# Altium integrated library Linear Technology PMIC-Switching Reg LTC1174-LTC3901.IntLib: 2647 symbols (part 64 of 310)
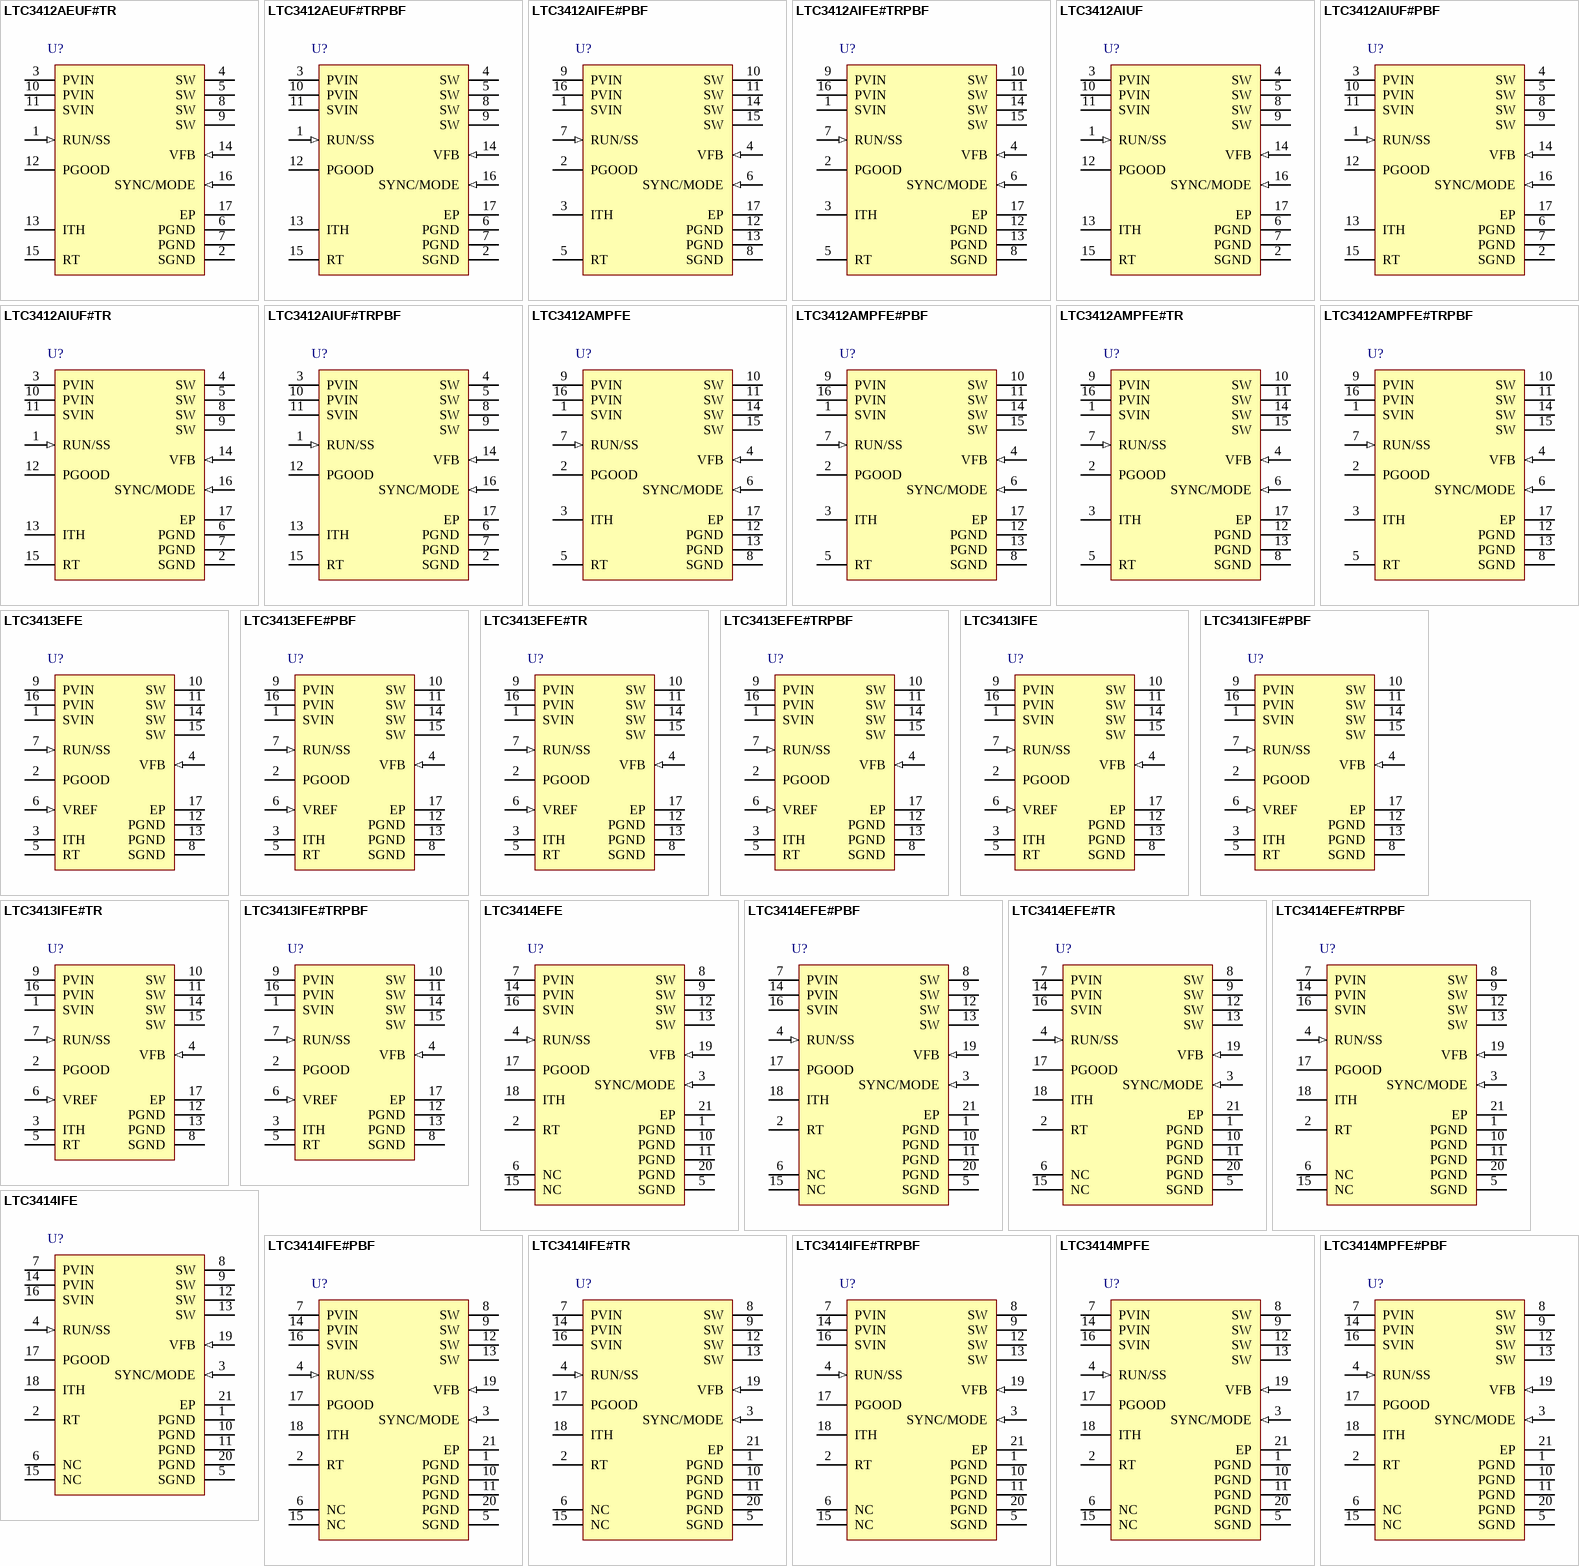
[diagram p252: symbols LTC3412AEUF#TR to LTC3414MPFE#PBF]

## LTC3414MPFE#PBF
designator U?
4 A, 4 MHz, Monolithic Synchronous Step-Down Regulator, 20-pin SOP (FE-20-EPV-CA), -55 to 125 degC, Pb-Free; Manufacturer: Linear Technology; PartNumber: LTC3414MPFE#PBF; Number of Outputs: 1; PackageReference: FE-20; PackageDescription: 20-Pin Plastic TSSOP, Body 6.5 x 4.4 mm, Pitch 0.65 mm; Supplier 1: Digi-Key; Supplier Part Number 1: LTC3414MPFE#PBF-ND; RoHS: TRUE
footprint LT-FE-20-EPV-CA_N (SOP, 20-Leads, Body 6.6x4.5mm, Pitch 0.65mm, Thermal Pad 4.95x2.74mm, IPC Medium Density)
footprint LT-FE-20-EPV-CA_L (SOP, 20-Leads, Body 6.6x4.5mm, Pitch 0.65mm, Thermal Pad 4.95x2.74mm, IPC High Density)
footprint LT-FE-20-EPV-CA_M (SOP, 20-Leads, Body 6.6x4.5mm, Pitch 0.65mm, Thermal Pad 4.95x2.74mm, IPC Low Density)
pins: 1 PGND (power) "Power Ground. Connect this pin closely to the (-) terminal of CIN and COUT.", 2 RT "Oscillator Resistor Input. Connecting a resistor to ground from this pin sets the switching frequency.", 3 SYNC/MODE (in) "Mode Select and External Clock Synchronization Input. To select Forced Continuous, tie to SVIN. Connecting this pin to a voltage between 0V and 1V selects Burst Mode operation with the burst clamp set to the pin voltage.", 4 RUN/SS (in) "Run Control and Soft-Start Input. Forcing this pin below 0.5V shuts down the LTC3414. In shutdown all functions are disabled. Less than 1uA of supply current is consumed. A capacitor to ground from this pin sets the ramp (See Datasheet)", 5 SGND (power) "Signal Ground. All small signal components and compensation components should connect to this ground, which in turn connects to PGND at one point.", 6 NC "Open. No internal connection.", 7 PVIN (power) "Power Input Supply. Decouple this pin to PGND with a capacitor.", 8 SW (power) "Switch Node Connection to Inductor. This pin connects to the drains of the internal main and synchronous power MOSFET switches.", 9 SW (power) "Switch Node Connection to Inductor. This pin connects to the drains of the internal main and synchronous power MOSFET switches.", 10 PGND (power) "Power Ground. Connect this pin closely to the (-) terminal of CIN and COUT.", 11 PGND (power) "Power Ground. Connect this pin closely to the (-) terminal of CIN and COUT.", 12 SW (power) "Switch Node Connection to Inductor. This pin connects to the drains of the internal main and synchronous power MOSFET switches.", 13 SW (power) "Switch Node Connection to Inductor. This pin connects to the drains of the internal main and synchronous power MOSFET switches.", 14 PVIN (power) "Power Input Supply. Decouple this pin to PGND with a capacitor.", 15 NC "Open. No internal connection.", 16 SVIN (power) "Signal Input Supply. Decouple this pin to SGND with a capacitor.", 17 PGOOD (oc) "Power Good Output. Open drain logic output that is pulled to ground when the output voltage is not within +/-7.5% of regulation point.", 18 ITH "Error Amplifier Compensation Point. The current comparator threshold increases with this control voltage. Nominal voltage range for this pin is from 0.2V to 1.4V with 0.4V corresponding to the zero-sense voltage (zero (See Datasheet)", 19 VFB (in) "Feedback Pin. Receives the feedback voltage from a resistive divider connected across the output.", 20 PGND (power) "Power Ground. Connect this pin closely to the (-) terminal of CIN and COUT.", 21 EP (power) "Should be connected to SGND and soldered to the PCB."

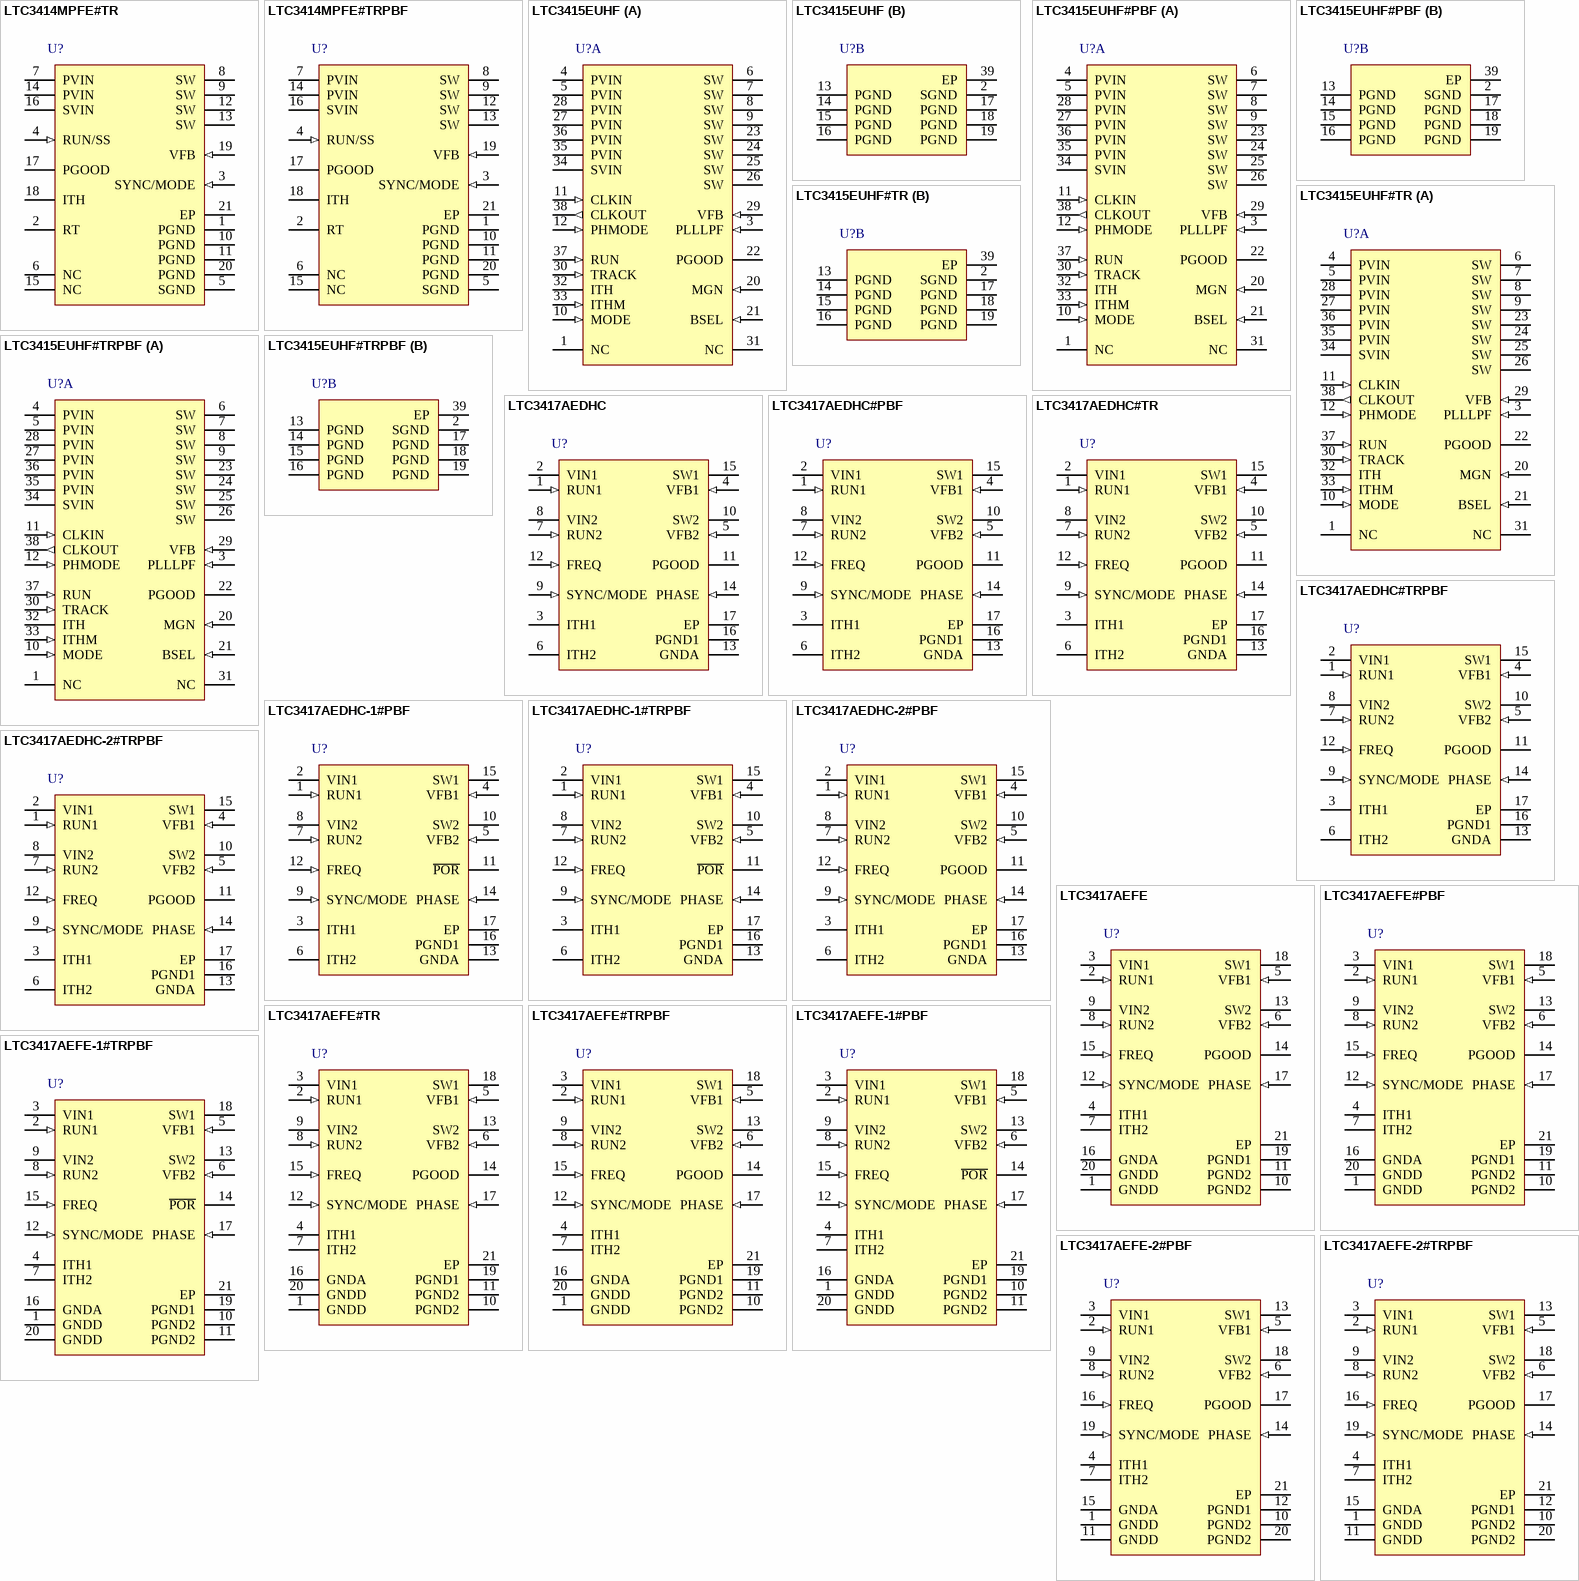
[diagram p23: symbols LTC3414MPFE#TR to LTC3417AEFE-2#TRPBF]